# EAGLE library part HF15?S (library con-subd)
HARTING SUB-D
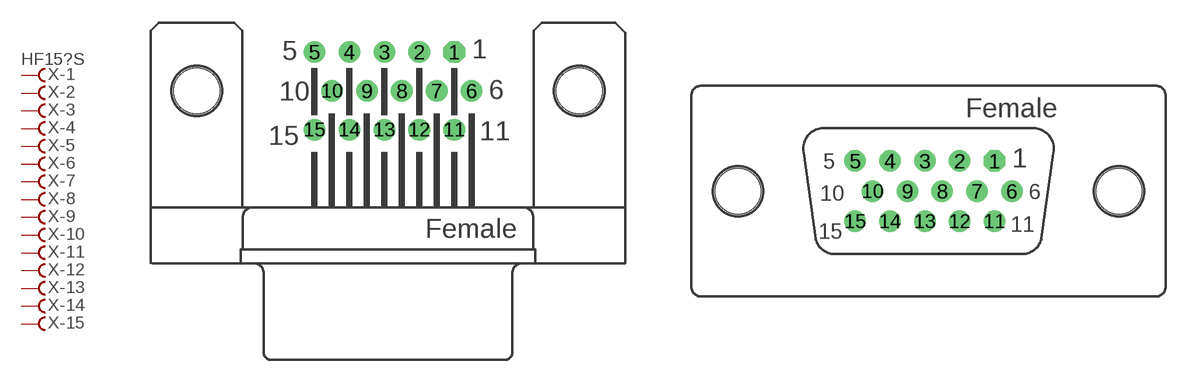
[diagram p22: symbol with the pads of HDF15H; footprints HDF15H, HDF15V]

Designator prefix X; gates -1=FV -2=F -3=F -4=F -5=F -6=F -7=F -8=F -9=F -10=F -11=F -12=F -13=F -14=F -15=F

## HF15HS  [HDF15H]
1  -1:F  pas
2  -2:F  pas
3  -3:F  pas
4  -4:F  pas
5  -5:F  pas
6  -6:F  pas
7  -7:F  pas
8  -8:F  pas
9  -9:F  pas
10  -10:F  pas
11  -11:F  pas
12  -12:F  pas
13  -13:F  pas
14  -14:F  pas
15  -15:F  pas

## HF15VS  [HDF15V]
Pads as for HDF15H

## Footprint HDF15H (pad centres in mm)
HARTING SUB-D
drill 0.9 octagon: 1 4.329,2.54
drill 0.9 round: 2 2.043,2.54; 3 -0.243,2.54; 4 -2.529,2.54; 5 -4.815,2.54; 6 5.472,0; 7 3.186,0; 8 0.9,0; 9 -1.386,0; 10 -3.672,0; 11 4.329,-2.54; 12 2.043,-2.54; 13 -0.243,-2.54; 14 -2.529,-2.54; 15 -4.815,-2.54
hole 3 at -12.5,0
hole 3 at 12.5,0

## Footprint HDF15V (pad centres in mm)
HARTING SUB-D
drill 0.9 octagon: 1 4.329,1.98
drill 0.9 round: 2 2.043,1.98; 3 -0.243,1.98; 4 -2.529,1.98; 5 -4.815,1.98; 6 5.472,0; 7 3.186,0; 8 0.9,0; 9 -1.386,0; 10 -3.672,0; 11 4.329,-1.98; 12 2.043,-1.98; 13 -0.243,-1.98; 14 -2.529,-1.98; 15 -4.815,-1.98
hole 3 at -12.5,0
hole 3 at 12.5,0